# Altium schematic symbol library BTN85X85.SchLib: 1 symbol
Pins are listed as number, name and electrical type; pins without a type are passive.

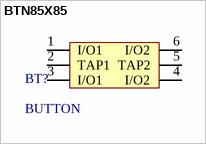
[diagram p0: symbol BTN85X85]

## BTN85X85
designator BT?, comment BUTTON
自锁按键
footprint BTN85X85 (自锁按键)
pins: 1 I/O1, 2 TAP1, 3 I/O1, 4 I/O2, 5 TAP2, 6 I/O2